# EAGLE library part BMA280 (library stepOSP)
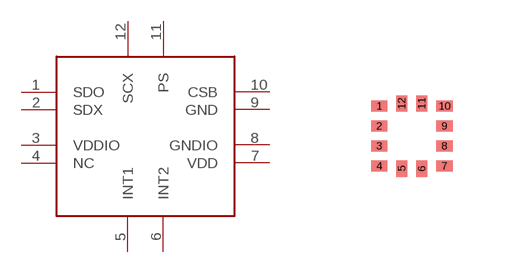
[diagram p43: symbol with the pads of BMA280; footprint BMA280]

Designator prefix -

## BMA280  [BMA280]
1  SDO
2  SDX
3  VDDIO
4  NC
5  INT1
6  INT2
7  VDD
8  GNDIO
9  GND
10  CSB
11  PS
12  SCX

## Footprint BMA280 (pad centres in mm)
smd 0.41 x 0.28: 1 -0.815,0.75; 2 -0.815,0.25; 3 -0.815,-0.25; 4 -0.815,-0.75; 7 0.815,-0.75; 8 0.815,-0.25; 9 0.815,0.25; 10 0.815,0.75
smd 0.28 x 0.41: 5 -0.25,-0.815; 6 0.25,-0.815; 11 0.25,0.815; 12 -0.25,0.815